# Altium schematic symbol library M20-9990446.SchLib: 1 symbol
Pins are listed as number, name and electrical type; pins without a type are passive.

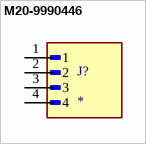
[diagram p0: symbol M20-9990446]

## M20-9990446
designator J?
MF: Harwin; MP: M20-9990446; Package: None; Price: None; Value: *; Availability: Unavailable
footprint HARWIN_M20-9990446
pins: 1, 2, 3, 4